# EAGLE library part A7670C_DEV_BOARD (library A7670C DEV BOARD)
This is the library for SIM A7670C dev board, with this library you can use this dev board on your circuit. Buy online from KTRON India www.ktron.in
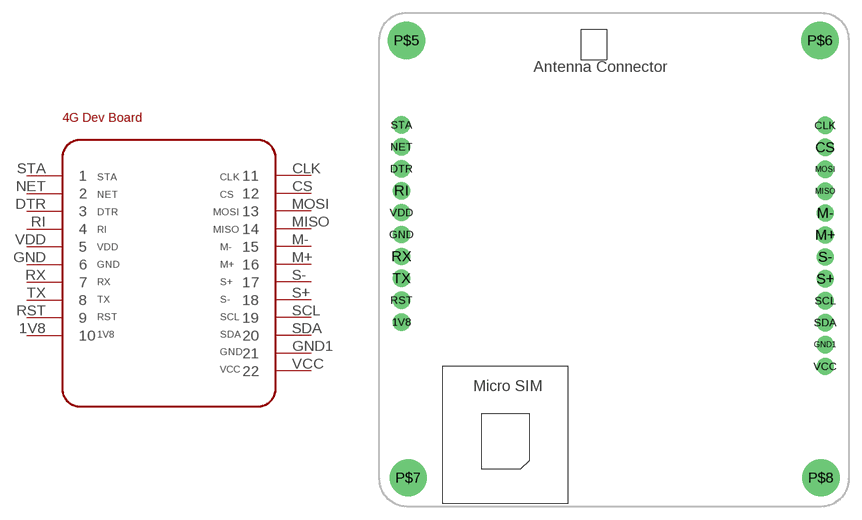
[diagram p0: symbol with the pads of A7670C; footprint A7670C]

Designator prefix M

## A7670C_DEV_BOARD  [A7670C]
1V8  10
CLK  11
CS  12
DTR  3
GND  6
GND1  21
M+  16
M-  15
MISO  14
MOSI  13
NET  2
RI  4
RST  9
RX  7
S+  18
S-  17
SCL  19
SDA  20
STA  1
TX  8
VCC  22
VDD  5

## Footprint A7670C (pad centres in mm)
drill 0.9 pad 2: 1V8 -4.283,-5.95; CLK 44.795,16.851; CS 44.795,14.311; DTR -4.283,11.83; GND -4.283,4.21; GND1 44.795,-8.549; M+ 44.795,4.151; M- 44.795,6.691; MISO 44.795,9.231; MOSI 44.795,11.771; NET -4.283,14.37; RI -4.283,9.29; RST -4.283,-3.41; RX -4.283,1.67; S+ 44.795,-0.929; S- 44.795,1.611; SCL 44.795,-3.469; SDA 44.795,-6.009; STA -4.283,16.91; TX -4.283,-0.87; VCC 44.795,-11.089; VDD -4.283,6.75
drill 3.302: P$5 -3.7,26.7; P$6 44.2,26.7; P$7 -3.5,-24; P$8 44.3,-24